# EAGLE library part XCL101-MODULE (library mylibrary)
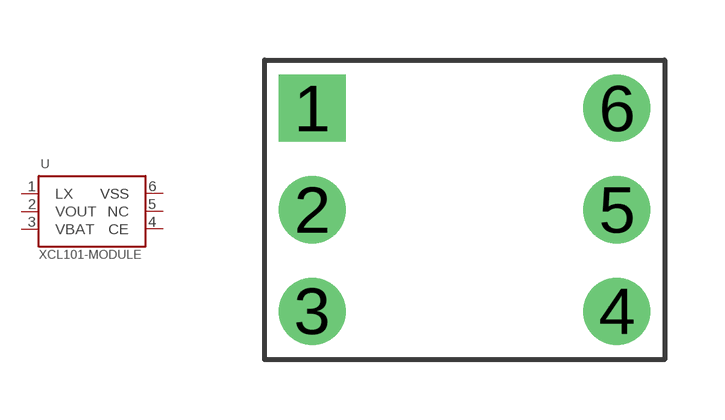
[diagram p2: symbol with the pads of XCL101-MODULE; footprint XCL101-MODULE]

Designator prefix U

## XCL101-MODULE-C331BR-G  [XCL101-MODULE]
1  LX
2  VOUT
3  VBAT
4  CE
5  NC
6  VSS

## Footprint XCL101-MODULE (pad centres in mm)
drill 1 pad 1.676 square: 1 -3.81,2.54
drill 1 pad 1.676: 2 -3.81,0; 3 -3.81,-2.54; 4 3.81,-2.54; 5 3.81,0; 6 3.81,2.54